# Altium footprint library GPS13740.PcbLib: 1 footprints
Each footprint in its own frame and in the unit in brackets; x right, y up, seen from the top. Pads: shape width x height; smd on the part's side, far side on the other; paste and mask are expansions set on the pad; w line width, h text height; cw(c..) or ccw(c..) is an arc to the next point about the centre after c.
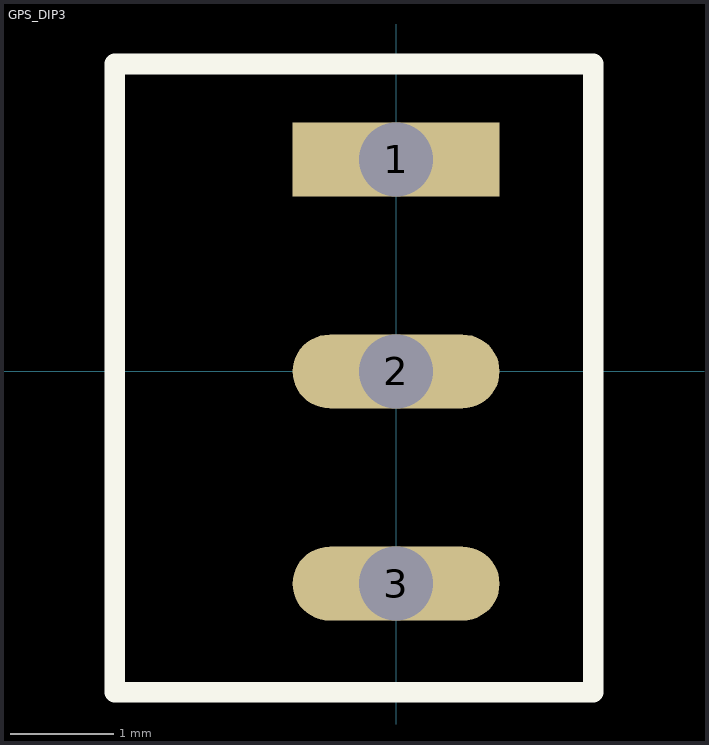
[diagram p0: the footprint, top view; thin cyan lines are the x and y axes]

## GPS_DIP3 [mm]
pads (3):
  rect 2x0.715 hole 0.715: 1(0,2.05)
  oval 2x0.715 hole 0.715: 2(0,0) 3(0,-2.05)
Top Overlay:
  lines w0.2: -2.718,-3.099 -2.718,2.972 1.905,2.972 1.905,-3.099 -2.718,-3.099
3D body "B3B-PH-K-S-LF--SN---3DModel-STEP-56544.STEP": height 5.81, standoff -3.59, extent -2.783,-3.95 1.717,3.95